# Altium footprint library SnapEDApcb.PcbLib: 1 footprints
Each footprint in its own frame and in the unit in brackets; x right, y up, seen from the top. Pads: shape width x height; smd on the part's side, far side on the other; paste and mask are expansions set on the pad; w line width, h text height; cw(c..) or ccw(c..) is an arc to the next point about the centre after c.
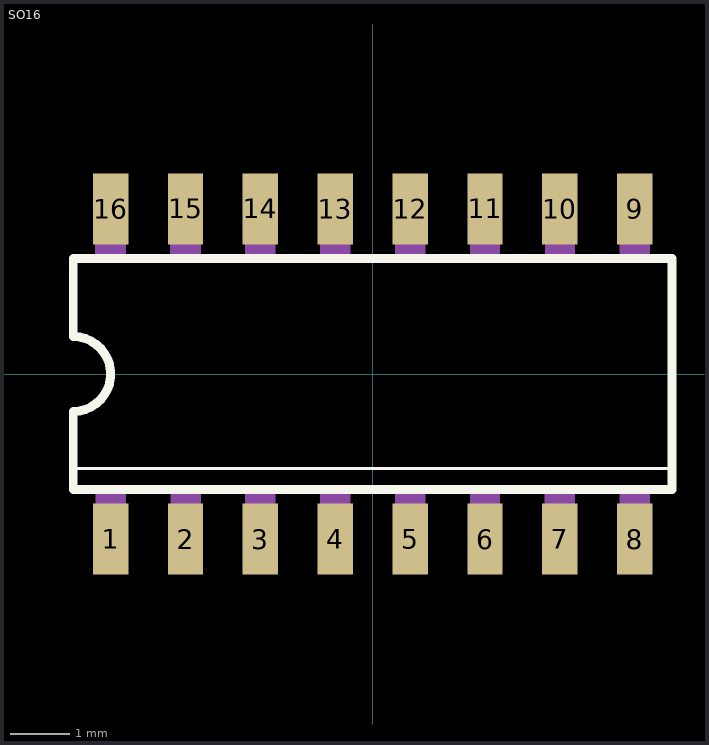
[diagram p0: the footprint, top view; thin cyan lines are the x and y axes]

## SO16 [mm]
pads (16):
  rect 0.6x1.2 smd: 1(-4.445,-2.8) 2(-3.175,-2.8) 3(-1.905,-2.8) 4(-0.635,-2.8) 5(0.635,-2.8) 6(1.905,-2.8) 7(3.175,-2.8) 8(4.445,-2.8) 9(4.445,2.8) 10(3.175,2.8) 11(1.905,2.8) 12(0.635,2.8) 13(-0.635,2.8) 14(-1.905,2.8) 15(-3.175,2.8) 16(-4.445,2.8)
Top Overlay:
  lines w0.051: -5.08,-1.6 5.08,-1.6
  lines w0.152: -5.08,-1.956 5.08,-1.956 5.08,1.956 -5.08,1.956 -5.08,0.635 cw(c-5.08,0) -5.08,-0.635 -5.08,-1.956
Mechanical 13:
  region: -0.381,1.959 -0.89,1.959 -0.89,3.099 -0.381,3.099
  region: -4.191,-3.1 -4.7,-3.1 -4.7,-1.956 -4.191,-1.956
  region: -2.921,-3.099 -3.429,-3.099 -3.429,-1.956 -2.921,-1.956
  region: -1.651,-3.074 -2.159,-3.074 -2.159,-1.93 -1.651,-1.93
  region: -0.381,-3.105 -0.891,-3.105 -0.891,-1.956 -0.381,-1.956
  region: -1.651,1.957 -2.16,1.957 -2.16,3.099 -1.651,3.099
  region: -2.921,1.957 -3.431,1.957 -3.431,3.099 -2.921,3.099
  region: -4.191,1.958 -4.703,1.958 -4.703,3.099 -4.191,3.099
  region: 0.889,-3.1 0.381,-3.1 0.381,-1.956 0.889,-1.956
  region: 2.159,-3.101 1.652,-3.101 1.652,-1.956 2.159,-1.956
  region: 3.429,-3.1 2.922,-3.1 2.922,-1.956 3.429,-1.956
  region: 4.699,-3.1 4.193,-3.1 4.193,-1.956 4.699,-1.956
  region: 0.889,1.957 0.381,1.957 0.381,3.099 0.889,3.099
  region: 2.159,1.959 1.654,1.959 1.654,3.099 2.159,3.099
  region: 3.429,1.96 2.927,1.96 2.927,3.099 3.429,3.099
  region: 4.699,1.957 4.193,1.957 4.193,3.099 4.699,3.099